# Altium schematic symbol library Example.SchLib: 1 symbol
Pins are listed as number, name and electrical type; pins without a type are passive.

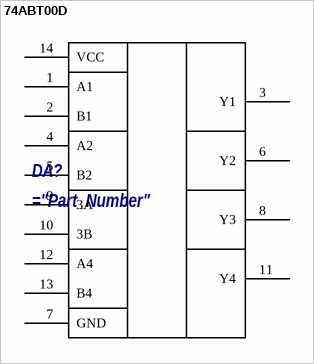
[diagram p0: symbol 74ABT00D]

## 74ABT00D
designator DA?
="Description"
pins: 1 A1, 2 B1, 3 Y1, 4 A2, 5 B2, 6 Y2, 7 GND, 8 Y3, 9 3A, 10 3B, 11 Y4, 12 A4, 13 B4, 14 VCC